# EAGLE library part 615008137421 (library SD-kart)
WR-MJ Modular Jack Horizontal Shielded with LED & EMI Panel Finger, 8 Pins=>Code : thb_615008137421 <http://katalog.we-online.de/media/thumbs2/eican/thb_615008137421_pf2.jpg> Details see: http://katalog.we-online.de/en/em/MJ_HORIZONTAL_SHIELDED_W_LED_AND_EMI_PANEL_FINGER_8P8C_TAB_UP Created 2014-07-10, Karrer Zheng 2014 (C) Würth Elektronik
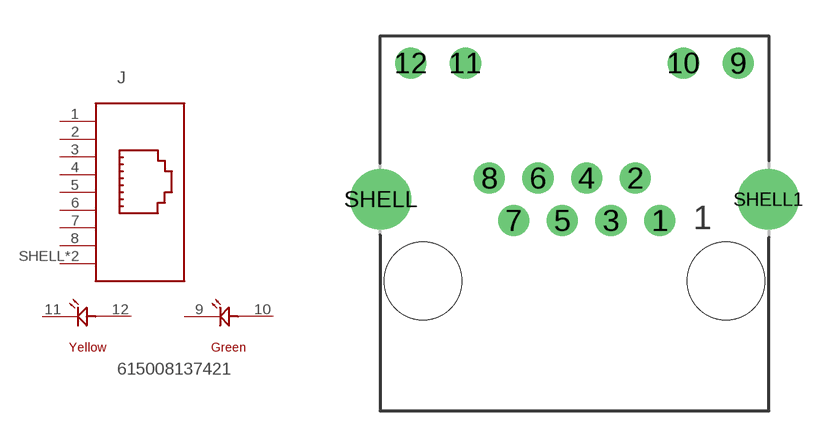
[diagram p102: symbol with the pads of 615008137421; footprint 615008137421]

Designator prefix J

## 615008137421  [615008137421]
1  8  pas
2  7  pas
3  6  pas
4  5  pas
5  4  pas
6  3  pas
7  2  pas
8  1  pas
9  12  pas
10  11  pas
11  10  pas
12  9  pas
SHELL  SHIELD  pas
SHELL1  SHIELD  pas

## Footprint 615008137421 (pad centres in mm)
WR-MJ Modular Jack Horizontal Shielded with LED & EMI Panel Finger, 8 Pins
drill 0.8: 1 3.57,2.54; 2 2.55,4.32; 3 1.53,2.54; 4 0.51,4.32; 5 -0.51,2.54; 6 -1.53,4.32; 7 -2.55,2.54; 8 -3.57,4.32; 9 6.86,9.14; 10 4.57,9.14; 11 -4.57,9.14; 12 -6.86,9.14
drill 1.7: SHELL -8.125,3.43; SHELL1 8.125,3.43
hole 3.25 at -6.35,0
hole 3.25 at 6.35,0